# Altium footprint library Q's常用电子元件.PcbLib: 69 footprints (part 2 of 5)
Each footprint in its own frame and in the unit in brackets; x right, y up, seen from the top. Pads: shape width x height; smd on the part's side, far side on the other; paste and mask are expansions set on the pad; w line width, h text height; cw(c..) or ccw(c..) is an arc to the next point about the centre after c.
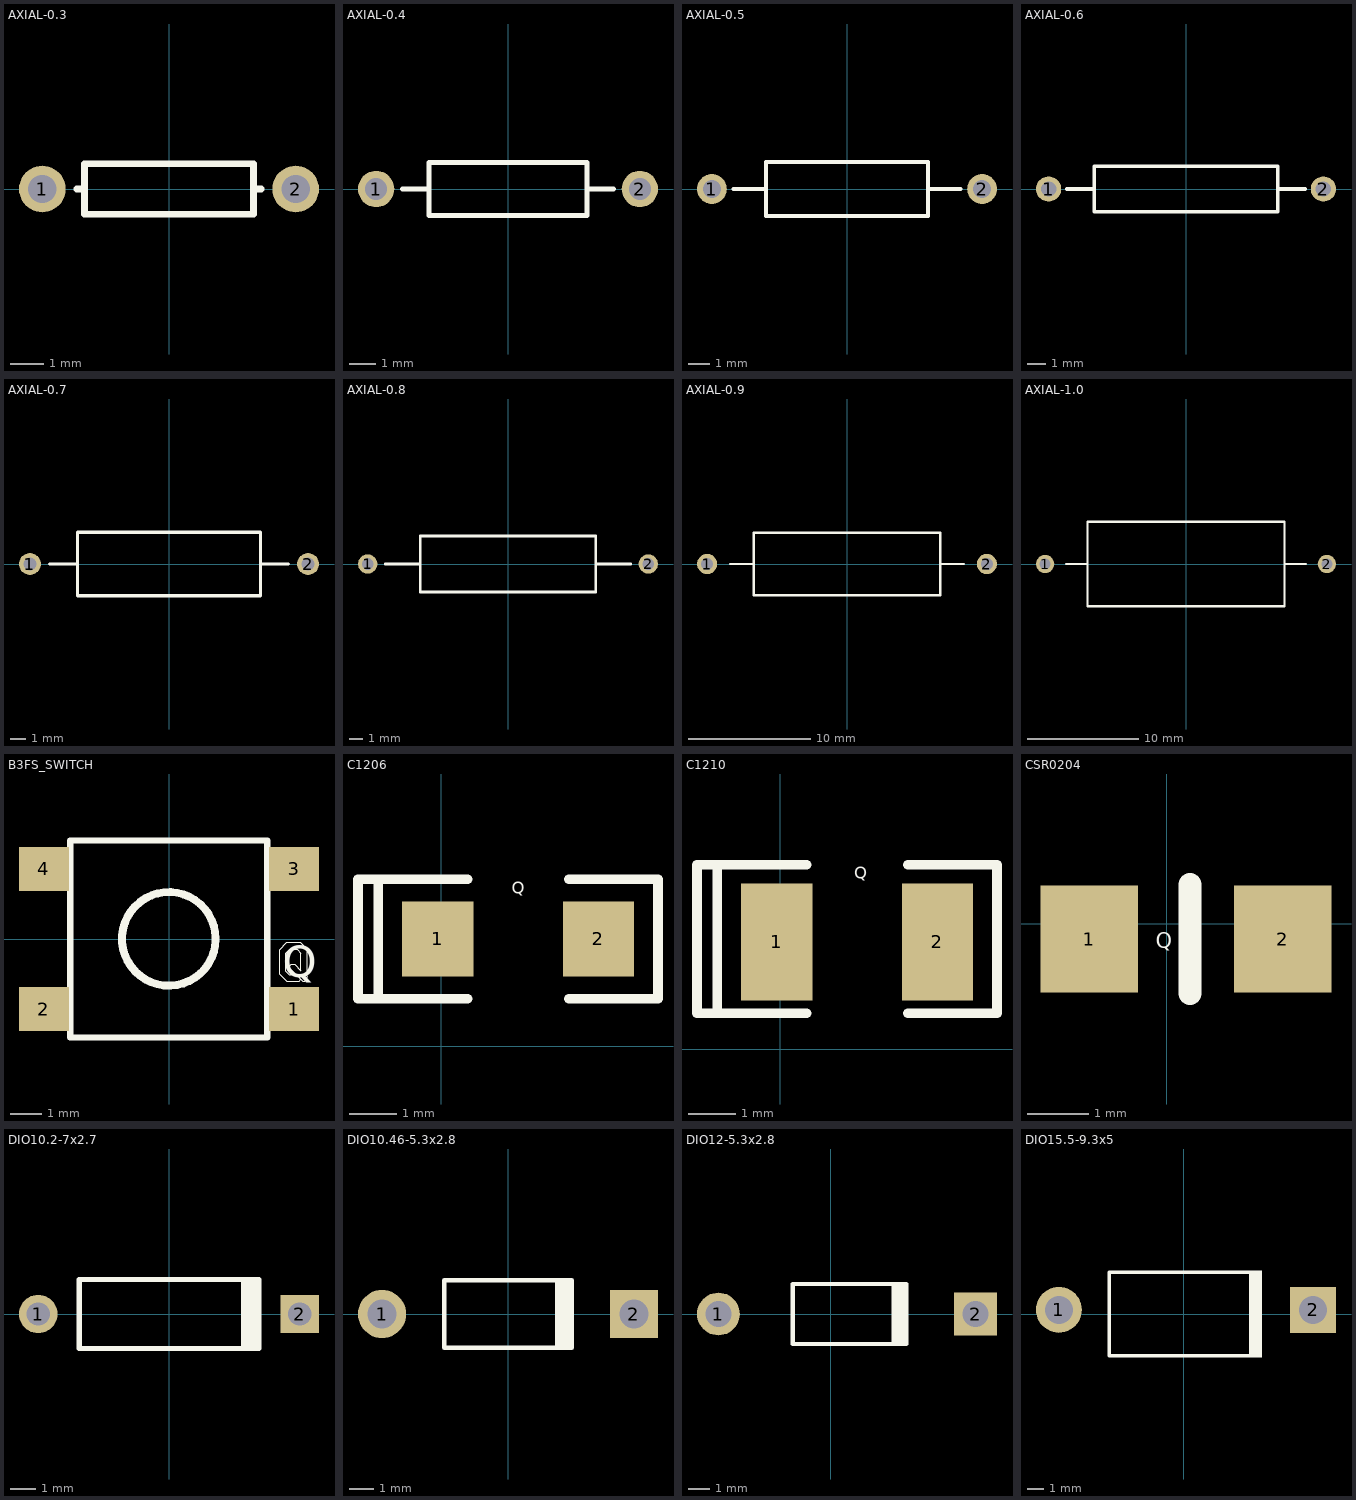
[diagram p1: the footprints below, top view; thin cyan lines are the x and y axes]

## AXIAL-0.3 [mm] "Axial Device, Thru-Hole; 2 Leads; 0.3 in Pin Spacing"
height 1.524
pads (2):
  round 1.4 hole 0.85: 1(-3.81,0) 2(3.81,0)
Top Overlay:
  lines w0.2: -2.769,0 -2.54,0 ; 2.769,0 2.54,0 ; 2.54,0 2.54,0.762 -2.54,0.762 -2.54,-0.762 2.54,-0.762 2.54,0

## AXIAL-0.4 [mm] "Axial Device, Thru-Hole; 2 Leads; 0.4 in Pin Spacing"
height 2.032
pads (2):
  round 1.4 hole 0.85: 1(-5.08,0) 2(5.08,0)
Top Overlay:
  lines w0.2: -4.064,0 -3.048,0 ; 3.048,0 4.064,0 ; -3.048,-1.016 3.048,-1.016 3.048,1.016 -3.048,1.016 -3.048,-1.016

## AXIAL-0.5 [mm] "Axial Device, Thru-Hole; 2 Leads; 0.5 in Pin Spacing"
height 2.54
pads (2):
  round 1.4 hole 0.85: 1(-6.35,0) 2(6.35,0)
Top Overlay:
  lines w0.2: -5.334,0 -3.81,0 ; 3.81,0 5.334,0 ; -3.81,-1.27 3.81,-1.27 3.81,1.27 -3.81,1.27 -3.81,-1.27

## AXIAL-0.6 [mm] "Axial Device, Thru-Hole; 2 Leads; 0.6 in Pin Spacing"
height 2.54
pads (2):
  round 1.4 hole 0.85: 1(-7.62,0) 2(7.62,0)
Top Overlay:
  lines w0.2: -6.604,0 -5.08,0 ; 5.08,0 6.604,0 ; -5.08,-1.27 5.08,-1.27 5.08,1.27 -5.08,1.27 -5.08,-1.27

## AXIAL-0.7 [mm] "Axial Device, Thru-Hole; 2 Leads; 0.7 in Pin Spacing"
height 4.064
pads (2):
  round 1.4 hole 0.85: 1(-8.89,0) 2(8.89,0)
Top Overlay:
  lines w0.2: -7.62,0 -5.842,0 ; 5.842,0 7.62,0 ; -5.842,-2.032 5.842,-2.032 5.842,2.032 -5.842,2.032 -5.842,-2.032

## AXIAL-0.8 [mm] "Axial Device, Thru-Hole; 2 Leads; 0.8 in Pin Spacing"
height 4.064
pads (2):
  round 1.4 hole 0.85: 1(-10.16,0) 2(10.16,0)
Top Overlay:
  lines w0.2: -8.89,0 -6.35,0 ; 6.35,0 8.89,0 ; -6.35,-2.032 -6.35,2.032 6.35,2.032 6.35,-2.032 -6.35,-2.032

## AXIAL-0.9 [mm] "Axial Device, Thru-Hole; 2 Leads; 0.9 in Pin Spacing"
height 5.08
pads (2):
  round 1.65 hole 1: 1(-11.43,0) 2(11.43,0)
Top Overlay:
  lines w0.2: -9.525,0 -7.62,0 ; 7.62,0 9.525,0 ; -7.62,-2.54 7.62,-2.54 7.62,2.54 -7.62,2.54 -7.62,-2.54

## AXIAL-1.0 [mm] "Axial Device, Thru-Hole; 2 Leads; 1.0 in Pin Spacing"
height 7.62
pads (2):
  round 1.65 hole 1: 1(-12.7,0) 2(12.7,0)
Top Overlay:
  lines w0.2: -10.795,0 -8.89,0 ; 8.89,0 10.795,0 ; -8.89,-3.81 8.89,-3.81 8.89,3.81 -8.89,3.81 -8.89,-3.81

## B3FS_SWITCH [mm]
pads (4):
  rect 1.6x1.4 smd: 1(3.998,-2.244) 2(-4.012,-2.244) 3(3.998,2.246) 4(-4.012,2.246)
Top Overlay:
  circle w0.254: c-0.012,0.006 r1.5
  lines w0.001: 3.894,-0.963 4.282,-1.354 4.285,-1.354 4.348,-1.354 4.425,-1.278 4.425,-1.201 4.399,-1.176 4.399,-1.151 4.425,-1.125 4.425,-0.338 4.196,-0.109 3.764,-0.109 3.536,-0.338 3.536,-1.125 3.764,-1.354 4.163,-1.354 4.221,-1.295 4.064,-1.138 3.84,-1.138 3.739,-1.036 3.739,-0.452 3.866,-0.325 4.094,-0.325 4.221,-0.452 4.221,-1.011 4.018,-0.808 3.917,-0.808 3.866,-0.859 3.866,-0.884 3.866,-0.935 3.894,-0.963 ; 3.894,-0.963 3.894,-0.963
  lines w0.2: -3.172,-3.154 -3.172,3.156 3.138,3.156 3.138,-3.154 -3.172,-3.154
  text "Q" at 3.642,-1.229 h1.02
3D body: height 4.57, standoff 0, extent -1.511,-1.494 1.488,1.505
3D body: height 0.76, standoff 0, extent -4.572,1.778 -2.794,2.667
3D body: height 0.76, standoff 0, extent 2.794,-2.667 4.572,-1.778
3D body: height 0.76, standoff 0, extent 2.794,1.778 4.572,2.667
3D body: height 0.76, standoff 0, extent -4.572,-2.667 -2.794,-1.778
3D body: height 2.5, standoff 0, extent -3.171,-3.154 3.138,3.155
3D body: height 1.6, standoff 0, extent 3.535,-1.354 4.425,-0.109

## C1206 [mil] "钽电容封装，Body3.2mm*1.6mm"
pads (2):
  rect 60x62.99 smd: 1(-3,90) 2(132,90)
Top Overlay:
  lines w8: -50,40 -70,40 -70,125 -70,140 -50,140 ; 22,40 -53,40 -53,140 22,140 ; 107,40 182,40 182,140 107,140
  text "Q" at 59,128 h10
3D body: height 23.62, standoff 0, extent 58.88,125.98 67.62,138.02
3D body: height 39.37, standoff 7.87, extent 2,58.5 127.98,121.5

## C1210 [mil] "钽电容封装，Body3.2mm*2.5mm"
pads (2):
  rect 60x98.43 smd: 1(-3,90) 2(132,90)
Top Overlay:
  lines w8: -65,155 -50,155 -70,155 -70,30 -50,30 ; 22,30 -53,30 -53,155 22,155 ; 107,30 182,30 182,155 107,155
  text "Q" at 62,143 h10
3D body: height 23.62, standoff 0, extent 62.68,140.48 71.42,152.52
3D body: height 39.37, standoff 7.87, extent -0.99,40.57 124.99,139

## CSR0204 [mm] "0805封装"
pads (2):
  rect 1.6x1.75 smd: 1(-1.27,-0.254) 2(1.905,-0.254)
Top Overlay:
  lines w0.381: 0.381,-1.143 0.381,0.635
  text "Q" at -0.178,-0.406 h0.25
3D body: height 0.6, standoff 0, extent -0.206,-0.443 0.016,-0.137

## DIO10.2-7x2.7 [mm] "Diode, Axial; Body 7 x 2.7 mm (LxDia. max), Lead Dia. 0.53 mm (max)"
height 2.7
pads (2):
  round 1.5 hole 0.9: 1(-5.1,0)
  rect 1.5x1.5 hole 0.9: 2(5.1,0)
Top Overlay:
  rectangle: 2.8,-1.35 3.6,1.35
  lines w0.2: 3.5,-1.35 -3.5,-1.35 -3.5,1.35 3.5,1.35

## DIO10.46-5.3x2.8 [mm] "Diode, Axial; Body 5.2 x 2.7 mm (LxDia. max), Lead Dia. 0.86 mm (max)"
height 2.8
pads (2):
  round 2 hole 1.2: 1(-5.23,0)
  rect 2x2 hole 1.2: 2(5.23,0)
Top Overlay:
  rectangle: 1.95,-1.4 2.75,1.4
  lines w0.2: 2.65,-1.4 -2.65,-1.4 -2.65,1.4 2.65,1.4

## DIO12-5.3x2.8 [mm] "Diode, Axial; Body 5.2 x 2.7 mm (LxDia. max), Lead Dia. 0.86 mm (max)"
height 2.8
pads (2):
  round 2 hole 1.2: 1(-5.23,0)
  rect 2x2 hole 1.2: 2(6.77,0)
Top Overlay:
  rectangle: 2.839,-1.4 3.639,1.4
  lines w0.2: 3.539,-1.4 -1.761,-1.4 -1.761,1.4 3.539,1.4

## DIO15.5-9.3x5 [mm] "Diode, Axial; Body 9.5 x 5.6 mm (LxDia. max), Lead Dia. 1.32 mm (max)"
height 5.6
pads (2):
  round 2.8 hole 1.7: 1(-7.62,0.254)
  rect 2.8x2.8 hole 1.7: 2(7.88,0.254)
Top Overlay:
  rectangle: 3.962,-2.642 4.762,2.642
  lines w0.2: 4.06,-2.54 -4.55,-2.54 -4.55,2.54 4.314,2.54